# EAGLE library part TLC5947 (library LX_Eagle_Lib)
TLC5947 24-Channel, 12-Bit PWM LED Driver With Internal Oscillator Input Voltage: 3-5.5V
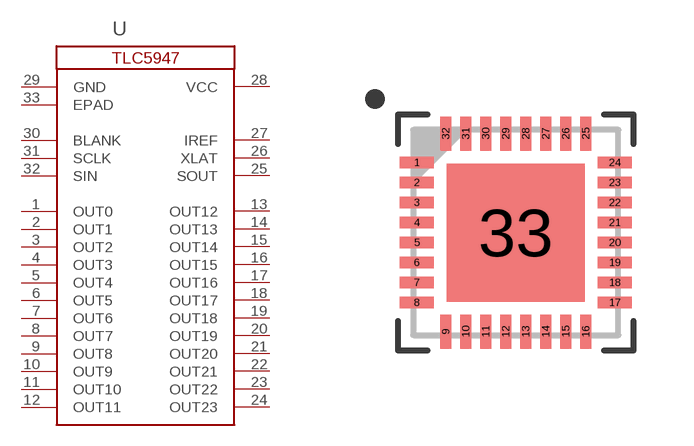
[diagram p5: symbol with the pads of VQFN-32; footprint VQFN-32]

Designator prefix U

## TLC5947 (MANUFACTURER_PART_NUMBER: TLC5947RHBRG4; VENDOR: Texas Instruments)  [VQFN-32]
1  OUT0  out
2  OUT1  out
3  OUT2  out
4  OUT3  out
5  OUT4  out
6  OUT5  out
7  OUT6  out
8  OUT7  out
9  OUT8  out
10  OUT9  out
11  OUT10  out
12  OUT11  out
13  OUT12  out
14  OUT13  out
15  OUT14  out
16  OUT15  out
17  OUT16  out
18  OUT17  out
19  OUT18  out
20  OUT19  out
21  OUT20  out
22  OUT21  out
23  OUT22  out
24  OUT23  out
25  SOUT  out
26  XLAT  in
27  IREF
28  VCC  pwr
29  GND  pwr
30  BLANK  in
31  SCLK  in
32  SIN  in
33  EPAD  pas

## Footprint VQFN-32 (pad centres in mm)
Case: VQFN-32 Mfr. #: TLC5947RHBT
smd 0.85 x 0.28: 1 -2.475,1.75; 2 -2.475,1.25; 3 -2.475,0.75; 4 -2.475,0.25; 5 -2.475,-0.25; 6 -2.475,-0.75; 7 -2.475,-1.25; 8 -2.475,-1.75; 17 2.475,-1.75; 18 2.475,-1.25; 19 2.475,-0.75; 20 2.475,-0.25; 21 2.475,0.25; 22 2.475,0.75; 23 2.475,1.25; 24 2.475,1.75
smd 0.28 x 0.85: 9 -1.75,-2.475; 10 -1.25,-2.475; 11 -0.75,-2.475; 12 -0.25,-2.475; 13 0.25,-2.475; 14 0.75,-2.475; 15 1.25,-2.475; 16 1.75,-2.475; 25 1.75,2.475; 26 1.25,2.475; 27 0.75,2.475; 28 0.25,2.475; 29 -0.25,2.475; 30 -0.75,2.475; 31 -1.25,2.475; 32 -1.75,2.475
smd 3.45 x 3.45: 33 0,0